# Altium schematic symbol library Surge_arrester.SchLib: 2 symbols
Pins are listed as number, name and electrical type; pins without a type are passive.

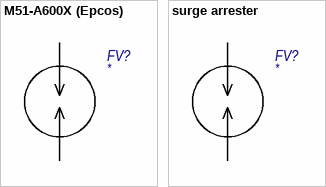
[diagram p0: symbols M51-A600X (Epcos) to surge arrester]

## M51-A600X (Epcos)
designator FV?
Type: *
footprint Surge_M51-A600X
footprint SURGE_A80_A600X
pins: 1, 2

## surge arrester
designator FV?
Type: *
pins: 1, 2